# EAGLE library part SN65HVD1473 (library texas)
RS422/ RS485 TRANSCEIVER
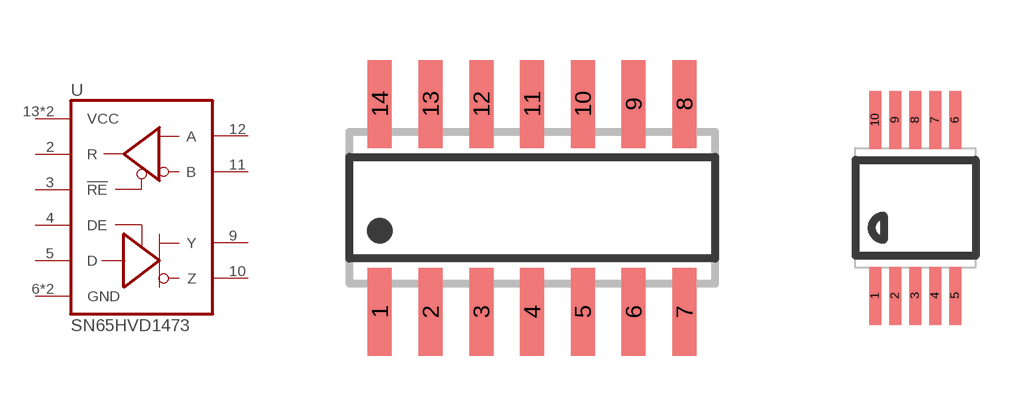
[diagram p114: symbol with the pads of SO14; footprints SO14, MSOP10]

Designator prefix U

## SN65HVD1473D  [SO14]
2  R  out
3  !RE!  in
4  DE  in
5  D  in
6  GND  pwr
7  GND  pwr
9  Y
10  Z
11  B  in
12  A  in
13  VCC  pwr
14  VCC  pwr

## SN65HVD1473DGS  [MSOP10]
1  R  out
2  !RE!  in
3  DE  in
4  D  in
5  GND  pwr
6  Y
7  Z
8  B  in
9  A  in
10  VCC  pwr

## Footprint SO14 (pad centres in mm)
SMALL OUTLINE INTEGRATED CIRCUIT body 3.9 mm/JEDEC MS-012AC
smd 0.6 x 2.2: 1 -3.81,-2.6; 2 -2.54,-2.6; 3 -1.27,-2.6; 4 0,-2.6; 5 1.27,-2.6; 6 2.54,-2.6; 7 3.81,-2.6; 8 3.81,2.6; 9 2.54,2.6; 10 1.27,2.6; 11 0,2.6; 12 -1.27,2.6; 13 -2.54,2.6; 14 -3.81,2.6

## Footprint MSOP10 (pad centres in mm)
MSOP-10 Body 3 x 3 mm, DGS (S-PDSO-G10)
smd 0.3 x 1.45: 1 -1,-2.2; 2 -0.5,-2.2; 3 0,-2.2; 4 0.5,-2.2; 5 1,-2.2; 6 1,2.2; 7 0.5,2.2; 8 0,2.2; 9 -0.5,2.2; 10 -1,2.2